# EAGLE library part TQ (library Panasonic Relay)
TQ - 2 Form C - 1 coil latching Data sheet <https://www.panasonic-electric-works.com/eu/download.htm?id=55524> Parameters Max. switching voltage: 110V DC, 125V AC Max. switching current: 1A Operational function: single side stable, 1 coil latching, 2 coil latching Contact arrangement: 2 CO Applications Communications Measurement equipment OA equipment Industrial machines Options Also available as single side stable and 2 coil latching version, all for standard PC board terminal or self-clinching terminal. Furthermore for the single side stable versions there are M.B.B. types besides the B.B.M. types.
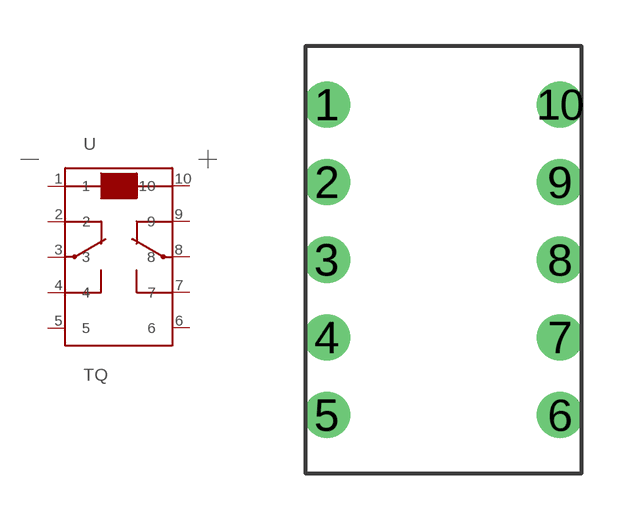
[diagram p19: symbol with the pads of TQ_SSS/1CLT/2CLT_PCB; footprint TQ_SSS/1CLT/2CLT_PCB]

Designator prefix -

## TQ2-L-12V (U_COIL: 12V DC), TQ2-L-24V (U_COIL: 24V DC), TQ2-L-3V (U_COIL: 3V DC), TQ2-L-4.5V (U_COIL: 4.5V DC), TQ2-L-5V (U_COIL: 5V DC), TQ2-L-6V (U_COIL: 6V DC), TQ2-L-9V (U_COIL: 9V DC), TQ2H-L-12V (U_COIL: 12V DC), TQ2H-L-24V (U_COIL: 24V DC), TQ2H-L-3V (U_COIL: 3V DC), TQ2H-L-4.5V (U_COIL: 4.5V DC), TQ2H-L-5V (U_COIL: 5V DC), TQ2H-L-6V (U_COIL: 6V DC), TQ2H-L-9V (U_COIL: 9V DC)  [TQ_SSS/1CLT/2CLT_PCB]
1  1
2  2
3  3
4  4
5  5
6  6
7  7
8  8
9  9
10  10

## Footprint TQ_SSS/1CLT/2CLT_PCB (pad centres in mm)
drill 1: 1 -3.81,5.08; 2 -3.81,2.54; 3 -3.81,0; 4 -3.81,-2.54; 5 -3.81,-5.08; 6 3.81,-5.08; 7 3.81,-2.54; 8 3.81,0; 9 3.81,2.54; 10 3.81,5.08